# Altium footprint library IC_Vishay_SIA519EDJ-T1-GE3_eec_0.PcbLib: 1 footprints
Each footprint in its own frame and in the unit in brackets; x right, y up, seen from the top. Pads: shape width x height; smd on the part's side, far side on the other; paste and mask are expansions set on the pad; w line width, h text height; cw(c..) or ccw(c..) is an arc to the next point about the centre after c.
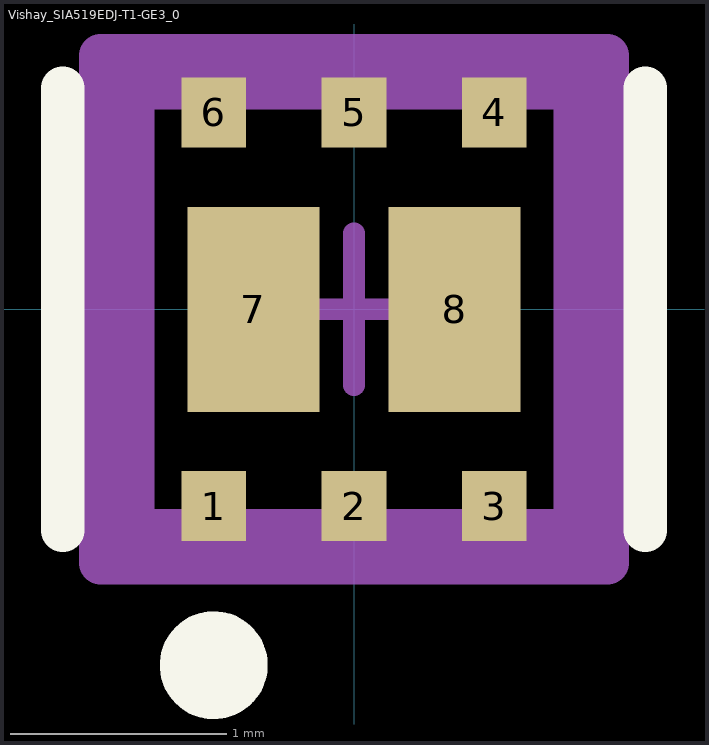
[diagram p0: the footprint, top view; thin cyan lines are the x and y axes]

## Vishay_SIA519EDJ-T1-GE3_0 [mm]
pads (8):
  rect 0.3x0.325 smd paste+0 mask+0: 1(-0.65,-0.913) 2(0,-0.913) 3(0.65,-0.913) 4(0.65,0.913) 5(0,0.913) 6(-0.65,0.913)
  rect 0.613x0.95 smd paste+0 mask+0: 7(-0.466,0) 8(0.466,0)
Top Overlay:
  circle w0.25: c-0.65,-1.65 r0.125
  lines w0.2: -1.35,-1.025 -1.35,1.025 ; 1.35,-1.025 1.35,1.025
Mechanical 10:
  lines w0.2: -1.175,-1.175 1.175,-1.175 1.175,1.175 -1.175,1.175 -1.175,-1.175
  text ".Designator" at 0,0.188 h1
Mechanical 12:
  lines w0.2: -1.025,-1.025 1.025,-1.025 1.025,1.025 -1.025,1.025 -1.025,-1.025
Mechanical 15:
  lines w0.1: -0.353,0 0.353,0 ; 0,-0.353 0,0.353
  lines w0.2: -1.175,-1.175 1.175,-1.175 1.175,1.175 -1.175,1.175 -1.175,-1.175
3D body "IC_Vishay_SIA519EDJ-T1-GE3_eec.STEP": height 0.25, standoff 0, extent -1.175,-1.175 1.175,1.175